# EAGLE library part ESP32-S2-MINI-1 (library ESP32-S2-MINI-1)
WiFi 802.11b/g/n Transceiver Module 2.412GHz - 2.484GHz Antenna Not Included Surface Mount Check availability <https://pricing.snapeda.com/parts/ESP32-S2-MINI-1/Espressif%20Systems/view-part?ref=eda>
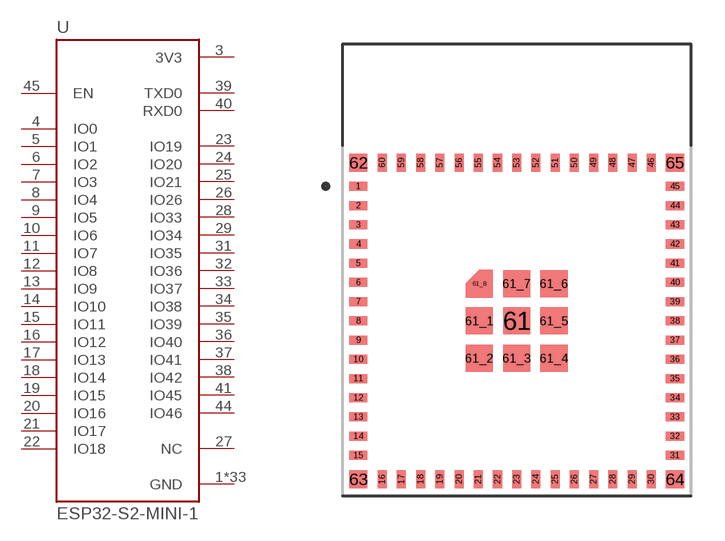
[diagram p0: symbol with the pads of XCVR_ESP32-S2-MINI-1; footprint XCVR_ESP32-S2-MINI-1]

Designator prefix U

## ESP32-S2-MINI-1 (Availability: In Stock; Description: WiFi 802.11b/g/n Transceiver Module 2.412GHz ~ 2.484GHz Antenna Not Included Surface Mount; MF: Espressif Systems; MP: ESP32-S2-MINI-1; Package: NON STANDARD-65 Espressif Systems; Price: None; Purchase-URL: https://pricing.snapeda.com/search/part/ESP32-S2-MINI-1/?ref=eda)  [XCVR_ESP32-S2-MINI-1]
1  GND  pwr
2  GND  pwr
3  3V3  pwr
4  IO0
5  IO1
6  IO2
7  IO3
8  IO4
9  IO5
10  IO6
11  IO7
12  IO8
13  IO9
14  IO10
15  IO11
16  IO12
17  IO13
18  IO14
19  IO15
20  IO16
21  IO17
22  IO18
23  IO19
24  IO20
25  IO21
26  IO26
27  NC  nc
28  IO33
29  IO34
30  GND  pwr
31  IO35
32  IO36
33  IO37
34  IO38
35  IO39
36  IO40
37  IO41
38  IO42
39  TXD0
40  RXD0
41  IO45
42  GND  pwr
43  GND  pwr
44  IO46  in
45  EN  in
46  GND  pwr
47  GND  pwr
48  GND  pwr
49  GND  pwr
50  GND  pwr
51  GND  pwr
52  GND  pwr
53  GND  pwr
54  GND  pwr
55  GND  pwr
56  GND  pwr
57  GND  pwr
58  GND  pwr
59  GND  pwr
60  GND  pwr
61  GND  pwr
61_1  GND  pwr
61_2  GND  pwr
61_3  GND  pwr
61_4  GND  pwr
61_5  GND  pwr
61_6  GND  pwr
61_7  GND  pwr
61_8  GND  pwr
62  GND  pwr
63  GND  pwr
64  GND  pwr
65  GND  pwr

## Footprint XCVR_ESP32-S2-MINI-1 (pad centres in mm)
smd 0.8 x 0.4: 1 -7,5.95; 2 -7,5.1; 3 -7,4.25; 4 -7,3.4; 5 -7,2.55; 6 -7,1.7; 7 -7,0.85; 8 -7,0; 9 -7,-0.85; 10 -7,-1.7; 11 -7,-2.55; 12 -7,-3.4; 13 -7,-4.25; 14 -7,-5.1; 15 -7,-5.95; 31 7,-5.95; 32 7,-5.1; 33 7,-4.25; 34 7,-3.4; 35 7,-2.55; 36 7,-1.7; 37 7,-0.85; 38 7,0; 39 7,0.85; 40 7,1.7; 41 7,2.55; 42 7,3.4; 43 7,4.25; 44 7,5.1; 45 7,5.95
smd 0.4 x 0.8: 16 -5.95,-7; 17 -5.1,-7; 18 -4.25,-7; 19 -3.4,-7; 20 -2.55,-7; 21 -1.7,-7; 22 -0.85,-7; 23 0,-7; 24 0.85,-7; 25 1.7,-7; 26 2.55,-7; 27 3.4,-7; 28 4.25,-7; 29 5.1,-7; 30 5.95,-7; 46 5.95,7; 47 5.1,7; 48 4.25,7; 49 3.4,7; 50 2.55,7; 51 1.7,7; 52 0.85,7; 53 0,7; 54 -0.85,7; 55 -1.7,7; 56 -2.55,7; 57 -3.4,7; 58 -4.25,7; 59 -5.1,7; 60 -5.95,7
smd 1.2 x 1.2: 61 0,0; 61_1 -1.65,0; 61_2 -1.65,-1.65; 61_3 0,-1.65; 61_4 1.65,-1.65; 61_5 1.65,0; 61_6 1.65,1.65; 61_7 0,1.65
smd 0.6 x 0.6: 61_8 -1.65,1.65
smd 0.8 x 0.8: 62 -7,7; 63 -7,-7; 64 7,-7; 65 7,7